# EAGLE library part PAULA (library Amiga)
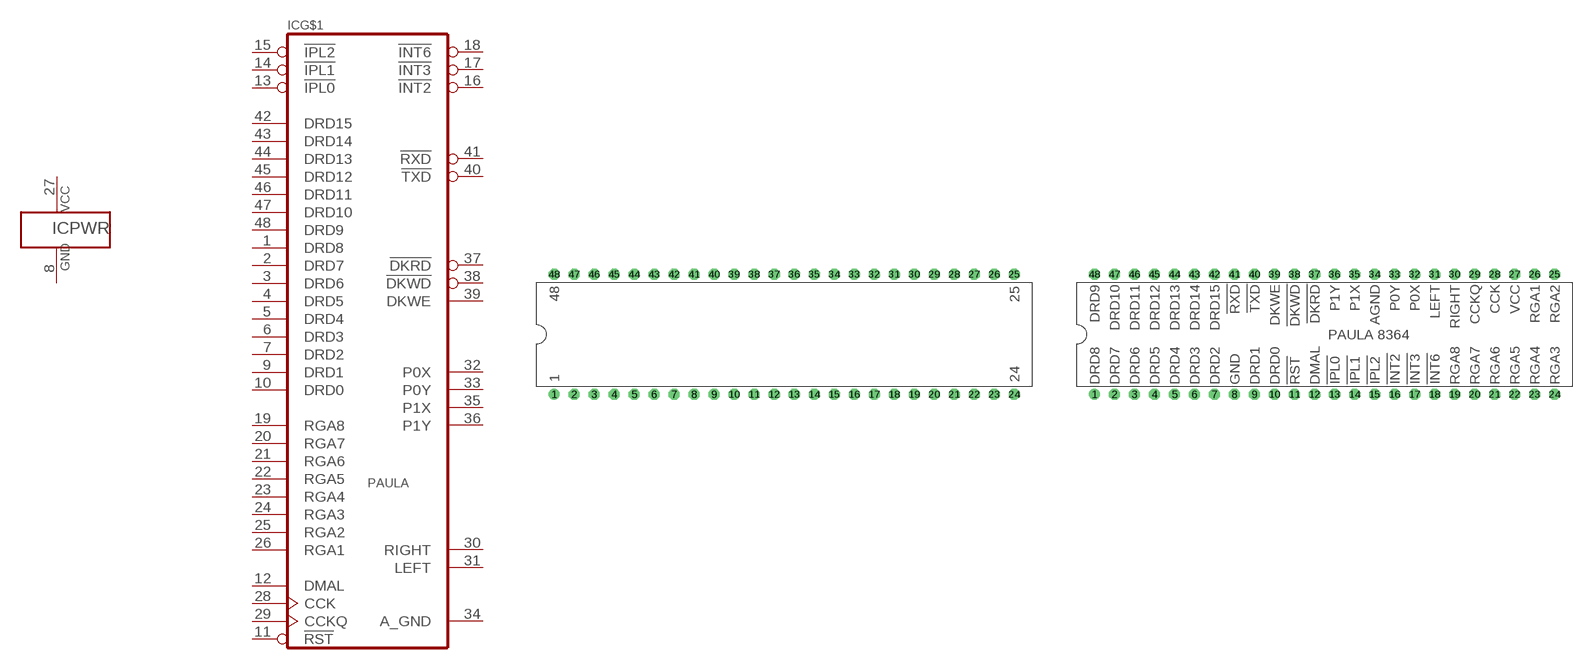
[diagram p7: symbol with the pads of DIP48-6; footprints DIP48-6, DIP48-PAULA]

Designator prefix IC; gates G$1=PAULA PWR=1VCC-1GND

## PAULA_DIP  [DIP48-6]
1  G$1:DRD8
2  G$1:DRD7
3  G$1:DRD6
4  G$1:DRD5
5  G$1:DRD4
6  G$1:DRD3
7  G$1:DRD2
8  PWR:GND1  pwr
9  G$1:DRD1
10  G$1:DRD0
11  G$1:!RST  in
12  G$1:DMAL  out
13  G$1:!IPL0  out
14  G$1:!IPL1  out
15  G$1:!IPL2  out
16  G$1:!INT2  in
17  G$1:!INT3  in
18  G$1:!INT6  in
19  G$1:RGA8  in
20  G$1:RGA7  in
21  G$1:RGA6  in
22  G$1:RGA5  in
23  G$1:RGA4  in
24  G$1:RGA3  in
25  G$1:RGA2  in
26  G$1:RGA1  in
27  PWR:VCC1  pwr
28  G$1:CCK  in
29  G$1:CCKQ  in
30  G$1:RIGHT  out
31  G$1:LEFT  out
32  G$1:P0X
33  G$1:P0Y
34  G$1:A_GND  pwr
35  G$1:P1X
36  G$1:P1Y
37  G$1:!DKRD  in
38  G$1:!DKWD  out
39  G$1:DKWE  out
40  G$1:!TXD  out
41  G$1:!RXD  in
42  G$1:DRD15
43  G$1:DRD14
44  G$1:DRD13
45  G$1:DRD12
46  G$1:DRD11
47  G$1:DRD10
48  G$1:DRD9

## PAULA_DIP-LABEL  [DIP48-PAULA]
Pads as for DIP48-6

## PAULA_PLCC_SMD  [PLCC52S]
1  G$1:DRD8
2  G$1:DRD7
3  G$1:DRD6
4  G$1:DRD5
5  G$1:DRD4
6  G$1:DRD3
7  G$1:DRD2
8  PWR:GND1  pwr
9  G$1:DRD1
10  G$1:DRD0
11  G$1:!RST  in
12  G$1:DMAL  out
13  G$1:!IPL0  out
14  G$1:!IPL1  out
15  G$1:!IPL2  out
19  G$1:!INT2  in
20  G$1:!INT3  in
21  G$1:!INT6  in
22  G$1:RGA8  in
23  G$1:RGA7  in
24  G$1:RGA6  in
25  G$1:RGA5  in
26  G$1:RGA4  in
27  G$1:RGA3  in
28  G$1:RGA2  in
29  G$1:RGA1  in
30  PWR:VCC1  pwr
31  G$1:CCK  in
32  G$1:CCKQ  in
33  G$1:RIGHT  out
34  G$1:LEFT  out
35  G$1:P0X
36  G$1:P0Y
37  G$1:A_GND  pwr
38  G$1:P1X
39  G$1:P1Y
40  G$1:!DKRD  in
41  G$1:!DKWD  out
42  G$1:DKWE  out
43  G$1:!TXD  out
44  G$1:!RXD  in
45  G$1:DRD15
46  G$1:DRD14
48  G$1:DRD13
49  G$1:DRD12
50  G$1:DRD11
51  G$1:DRD10
52  G$1:DRD9

## PAULA_PLCC_THT  [PLCC-S52-SOCKET]
Pads as for PLCC52S

## Footprint DIP48-6 (pad centres in mm)
drill 0.8 pad 1.4: 1 -27.94,-7.62
drill 0.8 pad 1.4 octagon: 2 -25.4,-7.62; 3 -22.86,-7.62; 4 -20.32,-7.62; 5 -17.78,-7.62; 6 -15.24,-7.62; 7 -12.7,-7.62; 8 -10.16,-7.62; 9 -7.62,-7.62; 10 -5.08,-7.62; 11 -2.54,-7.62; 12 0,-7.62; 13 2.54,-7.62; 14 5.08,-7.62; 15 7.62,-7.62; 16 10.16,-7.62; 17 12.7,-7.62; 18 15.24,-7.62; 19 17.78,-7.62; 20 20.32,-7.62; 21 22.86,-7.62; 22 25.4,-7.62; 23 27.94,-7.62; 24 30.48,-7.62; 25 30.48,7.62; 26 27.94,7.62; 27 25.4,7.62; 28 22.86,7.62; 29 20.32,7.62; 30 17.78,7.62; 31 15.24,7.62; 32 12.7,7.62; 33 10.16,7.62; 34 7.62,7.62; 35 5.08,7.62; 36 2.54,7.62; 37 0,7.62; 38 -2.54,7.62; 39 -5.08,7.62; 40 -7.62,7.62; 41 -10.16,7.62; 42 -12.7,7.62; 43 -15.24,7.62; 44 -17.78,7.62; 45 -20.32,7.62; 46 -22.86,7.62; 47 -25.4,7.62; 48 -27.94,7.62

## Footprint DIP48-PAULA (pad centres in mm)
drill 0.8 pad 1.4: 1 -29.21,-7.62
drill 0.8 pad 1.4 octagon: 2 -26.67,-7.62; 3 -24.13,-7.62; 4 -21.59,-7.62; 5 -19.05,-7.62; 6 -16.51,-7.62; 7 -13.97,-7.62; 8 -11.43,-7.62; 9 -8.89,-7.62; 10 -6.35,-7.62; 11 -3.81,-7.62; 12 -1.27,-7.62; 13 1.27,-7.62; 14 3.81,-7.62; 15 6.35,-7.62; 16 8.89,-7.62; 17 11.43,-7.62; 18 13.97,-7.62; 19 16.51,-7.62; 20 19.05,-7.62; 21 21.59,-7.62; 22 24.13,-7.62; 23 26.67,-7.62; 24 29.21,-7.62; 25 29.21,7.62; 26 26.67,7.62; 27 24.13,7.62; 28 21.59,7.62; 29 19.05,7.62; 30 16.51,7.62; 31 13.97,7.62; 32 11.43,7.62; 33 8.89,7.62; 34 6.35,7.62; 35 3.81,7.62; 36 1.27,7.62; 37 -1.27,7.62; 38 -3.81,7.62; 39 -6.35,7.62; 40 -8.89,7.62; 41 -11.43,7.62; 42 -13.97,7.62; 43 -16.51,7.62; 44 -19.05,7.62; 45 -21.59,7.62; 46 -24.13,7.62; 47 -26.67,7.62; 48 -29.21,7.62

## Footprint PLCC52S (pad centres in mm)
PLASTIC LEADED CHIP CARRIER square
smd 0.6 x 2.2: 1 0,9.4; 2 -1.27,9.4; 3 -2.54,9.4; 4 -3.81,9.4; 5 -5.08,9.4; 6 -6.35,9.4; 7 -7.62,9.4; 21 -7.62,-9.4; 22 -6.35,-9.4; 23 -5.08,-9.4; 24 -3.81,-9.4; 25 -2.54,-9.4; 26 -1.27,-9.4; 27 0,-9.4; 28 1.27,-9.4; 29 2.54,-9.4; 30 3.81,-9.4; 31 5.08,-9.4; 32 6.35,-9.4; 33 7.62,-9.4; 47 7.62,9.4; 48 6.35,9.4; 49 5.08,9.4; 50 3.81,9.4; 51 2.54,9.4; 52 1.27,9.4
smd 2.2 x 0.6: 8 -9.4,7.62; 9 -9.4,6.35; 10 -9.4,5.08; 11 -9.4,3.81; 12 -9.4,2.54; 13 -9.4,1.27; 14 -9.4,0; 15 -9.4,-1.27; 16 -9.4,-2.54; 17 -9.4,-3.81; 18 -9.4,-5.08; 19 -9.4,-6.35; 20 -9.4,-7.62; 34 9.4,-7.62; 35 9.4,-6.35; 36 9.4,-5.08; 37 9.4,-3.81; 38 9.4,-2.54; 39 9.4,-1.27; 40 9.4,0; 41 9.4,1.27; 42 9.4,2.54; 43 9.4,3.81; 44 9.4,5.08; 45 9.4,6.35; 46 9.4,7.62

## Footprint PLCC-S52-SOCKET (pad centres in mm)
Plastic Leaded Chip Carrier Socket
drill 0.813: 1 0,10.16
drill 0.813 octagon: 2 0,7.62; 3 -2.54,10.16; 4 -2.54,7.62; 5 -5.08,10.16; 6 -5.08,7.62; 7 -7.62,10.16; 8 -10.16,7.62; 9 -7.62,7.62; 10 -10.16,5.08; 11 -7.62,5.08; 12 -10.16,2.54; 13 -7.62,2.54; 14 -10.16,0; 15 -7.62,0; 16 -10.16,-2.54; 17 -7.62,-2.54; 18 -10.16,-5.08; 19 -7.62,-5.08; 20 -10.16,-7.62; 21 -7.62,-10.16; 22 -7.62,-7.62; 23 -5.08,-10.16; 24 -5.08,-7.62; 25 -2.54,-10.16; 26 -2.54,-7.62; 27 0,-10.16; 28 0,-7.62; 29 2.54,-10.16; 30 2.54,-7.62; 31 5.08,-10.16; 32 5.08,-7.62; 33 7.62,-10.16; 34 10.16,-7.62; 35 7.62,-7.62; 36 10.16,-5.08; 37 7.62,-5.08; 38 10.16,-2.54; 39 7.62,-2.54; 40 10.16,0; 41 7.62,0; 42 10.16,2.54; 43 7.62,2.54; 44 10.16,5.08; 45 7.62,5.08; 46 10.16,7.62; 47 7.62,10.16; 48 7.62,7.62; 49 5.08,10.16; 50 5.08,7.62; 51 2.54,10.16; 52 2.54,7.62